# Altium footprint library footprints.PcbLib: 13 footprints
Each footprint in its own frame and in the unit in brackets; x right, y up, seen from the top. Pads: shape width x height; smd on the part's side, far side on the other; paste and mask are expansions set on the pad; w line width, h text height; cw(c..) or ccw(c..) is an arc to the next point about the centre after c.
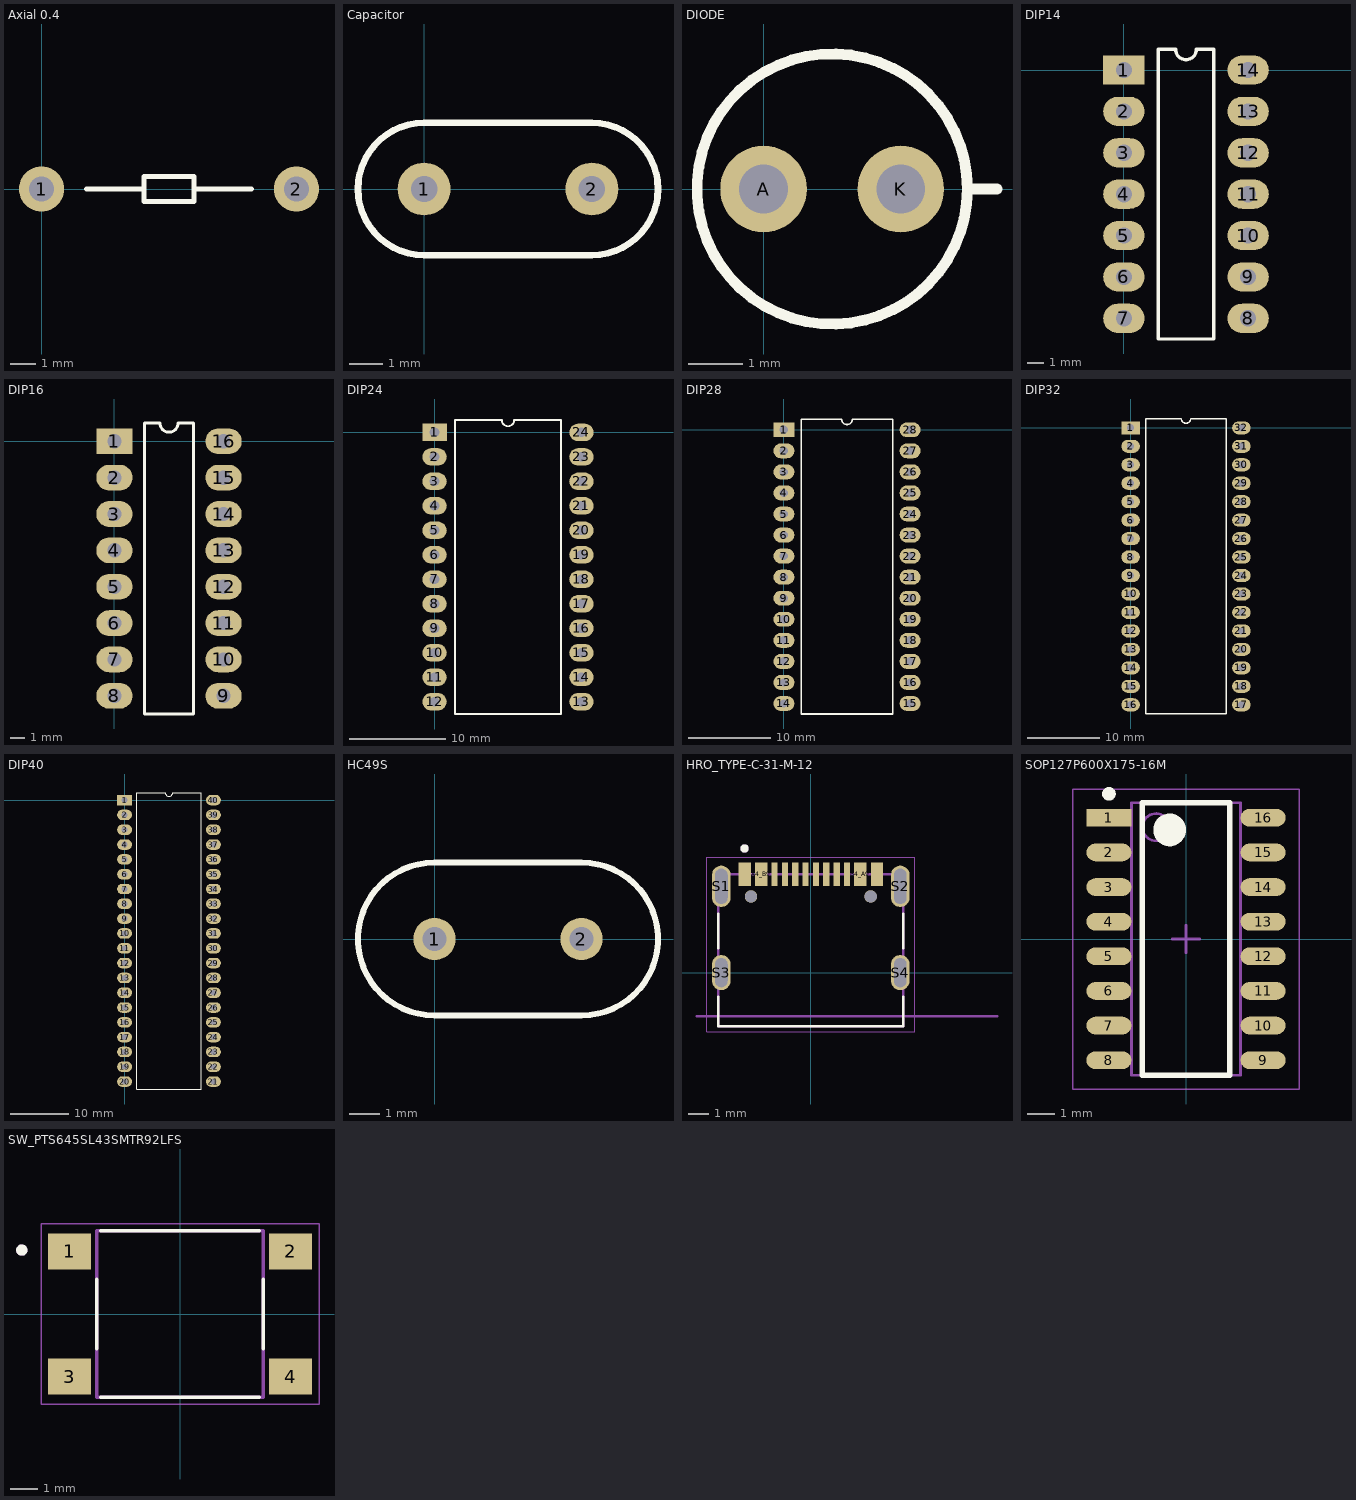
[diagram p0: the footprints below, top view; thin cyan lines are the x and y axes]

## Axial 0.4 [mm]
pads (2):
  round 1.8 hole 1: 1(0,0) 2(10.16,0)
Top Overlay:
  lines w0.2: 1.8,0 4.075,0 ; 6.085,0 8.36,0 ; 4.075,0 4.075,0.5 6.085,0.5 6.085,-0.5 4.075,-0.5 4.075,0

## Capacitor [mm]
pads (2):
  round 1.6 hole 0.8: 1(0,0) 2(5.08,0)
Top Overlay:
  lines w0.2: 0,-2 cw(c0,0) 0,2 5.08,2 cw(c5.08,0) 5.08,-2 0,-2

## DIODE [mm]
pads (2):
  round 1.6 hole 0.9: A(0,0) K(2.54,0)
Top Overlay:
  circle w0.2: c1.27,0 r2.5
  lines w0.2: 3.77,0 4.318,0

## DIP14 [mm]
pads (14):
  rect 2.54x1.8 hole 1: 1(0,0)
  oval 2.54x1.8 hole 1: 2(0,-2.54) 3(0,-5.08) 4(0,-7.62) 5(0,-10.16) 6(0,-12.7) 7(0,-15.24) 8(7.62,-15.24) 9(7.62,-12.7) 10(7.62,-10.16) 11(7.62,-7.62) 12(7.62,-5.08) 13(7.62,-2.54) 14(7.62,0)
Top Overlay:
  lines w0.2: 2.105,-16.51 5.515,-16.51 5.515,1.27 4.445,1.27 cw(c3.81,1.27) 3.175,1.27 2.105,1.27 2.105,-16.51

## DIP16 [mm]
pads (16):
  rect 2.54x1.8 hole 1: 1(0,0)
  oval 2.54x1.8 hole 1: 2(0,-2.54) 3(0,-5.08) 4(0,-7.62) 5(0,-10.16) 6(0,-12.7) 7(0,-15.24) 8(0,-17.78) 9(7.62,-17.78) 10(7.62,-15.24) 11(7.62,-12.7) 12(7.62,-10.16) 13(7.62,-7.62) 14(7.62,-5.08) 15(7.62,-2.54) 16(7.62,0)
Top Overlay:
  lines w0.2: 2.105,-19.05 2.105,1.27 3.175,1.27 ccw(c3.81,1.27) 4.445,1.27 5.515,1.27 5.515,-19.05 2.105,-19.05

## DIP24 [mm]
pads (24):
  rect 2.54x1.8 hole 1: 1(0,0)
  oval 2.54x1.8 hole 1: 2(0,-2.54) 3(0,-5.08) 4(0,-7.62) 5(0,-10.16) 6(0,-12.7) 7(0,-15.24) 8(0,-17.78) 9(0,-20.32) 10(0,-22.86) 11(0,-25.4) 12(0,-27.94) 13(15.24,-27.94) 14(15.24,-25.4) 15(15.24,-22.86) 16(15.24,-20.32) 17(15.24,-17.78) 18(15.24,-15.24) 19(15.24,-12.7) 20(15.24,-10.16) 21(15.24,-7.62) 22(15.24,-5.08) 23(15.24,-2.54) 24(15.24,0)
Top Overlay:
  lines w0.2: 2.105,-29.21 2.105,1.27 6.985,1.27 ccw(c7.62,1.27) 8.255,1.27 13.135,1.27 13.135,-29.21 2.105,-29.21

## DIP28 [mm]
pads (28):
  rect 2.54x1.8 hole 1: 1(0,0)
  oval 2.54x1.8 hole 1: 2(0,-2.54) 3(0,-5.08) 4(0,-7.62) 5(0,-10.16) 6(0,-12.7) 7(0,-15.24) 8(0,-17.78) 9(0,-20.32) 10(0,-22.86) 11(0,-25.4) 12(0,-27.94) 13(0,-30.48) 14(0,-33.02) 15(15.24,-33.02) 16(15.24,-30.48) 17(15.24,-27.94) 18(15.24,-25.4) 19(15.24,-22.86) 20(15.24,-20.32) 21(15.24,-17.78) 22(15.24,-15.24) 23(15.24,-12.7) 24(15.24,-10.16) 25(15.24,-7.62) 26(15.24,-5.08) 27(15.24,-2.54) 28(15.24,0)
Top Overlay:
  lines w0.2: 2.105,-34.29 2.105,1.27 6.985,1.27 ccw(c7.62,1.27) 8.255,1.27 13.135,1.27 13.135,-34.29 2.105,-34.29

## DIP32 [mm]
pads (32):
  rect 2.54x1.8 hole 1: 1(0,0)
  oval 2.54x1.8 hole 1: 2(0,-2.54) 3(0,-5.08) 4(0,-7.62) 5(0,-10.16) 6(0,-12.7) 7(0,-15.24) 8(0,-17.78) 9(0,-20.32) 10(0,-22.86) 11(0,-25.4) 12(0,-27.94) 13(0,-30.48) 14(0,-33.02) 15(0,-35.56) 16(0,-38.1) 17(15.24,-38.1) 18(15.24,-35.56) 19(15.24,-33.02) 20(15.24,-30.48) 21(15.24,-27.94) 22(15.24,-25.4) 23(15.24,-22.86) 24(15.24,-20.32) 25(15.24,-17.78) 26(15.24,-15.24) 27(15.24,-12.7) 28(15.24,-10.16) 29(15.24,-7.62) 30(15.24,-5.08) 31(15.24,-2.54) 32(15.24,0)
Top Overlay:
  lines w0.2: 2.105,-39.37 13.135,-39.37 13.135,1.27 8.255,1.27 cw(c7.62,1.27) 6.985,1.27 2.105,1.27 2.105,-39.37

## DIP40 [mm]
pads (40):
  rect 2.54x1.8 hole 1: 1(0,0)
  oval 2.54x1.8 hole 1: 2(0,-2.54) 3(0,-5.08) 4(0,-7.62) 5(0,-10.16) 6(0,-12.7) 7(0,-15.24) 8(0,-17.78) 9(0,-20.32) 10(0,-22.86) 11(0,-25.4) 12(0,-27.94) 13(0,-30.48) 14(0,-33.02) 15(0,-35.56) 16(0,-38.1) 17(0,-40.64) 18(0,-43.18) 19(0,-45.72) 20(0,-48.26) 21(15.24,-48.26) 22(15.24,-45.72) 23(15.24,-43.18) 24(15.24,-40.64) 25(15.24,-38.1) 26(15.24,-35.56) 27(15.24,-33.02) 28(15.24,-30.48) 29(15.24,-27.94) 30(15.24,-25.4) 31(15.24,-22.86) 32(15.24,-20.32) 33(15.24,-17.78) 34(15.24,-15.24) 35(15.24,-12.7) 36(15.24,-10.16) 37(15.24,-7.62) 38(15.24,-5.08) 39(15.24,-2.54) 40(15.24,0)
Top Overlay:
  lines w0.2: 2.105,-49.53 13.135,-49.53 13.135,1.27 8.255,1.27 cw(c7.62,1.27) 6.985,1.27 2.105,1.27 2.105,-49.53

## HC49S [mm]
pads (2):
  round 1.4 hole 0.8: 1(0,0) 2(4.88,0)
Top Overlay:
  lines w0.2: 0,-2.54 cw(c0,0) 0,2.54 4.88,2.54 cw(c4.88,0) 4.88,-2.54 0,-2.54

## HRO_TYPE-C-31-M-12 [mm]
height 3.26
pads (18):
  rect 0.6x1.14 smd mask+0.05: A1_B12(-3.2,4.75) A4_B9(-2.4,4.75) B1_A12(3.2,4.75) B4_A9(2.4,4.75)
  rect 0.3x1.14 smd mask+0.05: A5(-1.25,4.75) A6(-0.25,4.75) A7(0.25,4.75) A8(1.25,4.75) B5(1.75,4.75) B6(0.75,4.75) B7(-0.75,4.75) B8(-1.75,4.75)
  oval 0.9x2 hole 0.6 slot 1.7 at 90 deg: S1(-4.325,4.17) S2(4.325,4.17)
  oval 0.9x1.7 hole 0.6 slot 1.4 at 90 deg: S3(-4.325,0) S4(4.325,0)
  round 0.6 hole 0.6 unplated: ""(-2.89,3.68) ""(2.89,3.68)
Top Overlay:
  circle w0.2: c-3.2,6 r0.1
  lines w0.127: -4.47,-1.17 -4.47,-2.6 4.47,-2.6 4.47,-1.17 ; -4.47,1.17 -4.47,2.85 ; 4.47,1.17 4.47,2.85
Mechanical 13:
  circle w0.2: c-3.2,6 r0.1
  lines w0.127: -5.5,-2.11 9,-2.11 ; -4.47,-2.6 4.47,-2.6 4.47,4.75 -4.47,4.75 -4.47,-2.6
  text "PCB EDGE" at 5.2,-1.9 h0.61
Mechanical 15:
  lines w0.05: -5.025,-2.85 -5.025,5.57 5.025,5.57 5.025,-2.85 -5.025,-2.85
3D body "step_temp.STEP": height 3.31, standoff -0.99, extent -4.47,-2.6 4.47,5.305

## SOP127P600X175-16M [mm] "SOP, 16-Leads, Body 9.90x3.90mm, Pitch 1.27mm, IPC Low Density"
height 1.75
pads (16):
  rect 1.65x0.65 smd: 1(-2.825,4.445)
  oval 1.65x0.65 smd: 2(-2.825,3.175) 3(-2.825,1.905) 4(-2.825,0.635) 5(-2.825,-0.635) 6(-2.825,-1.905) 7(-2.825,-3.175) 8(-2.825,-4.445) 9(2.825,-4.445) 10(2.825,-3.175) 11(2.825,-1.905) 12(2.825,-0.635) 13(2.825,0.635) 14(2.825,1.905) 15(2.825,3.175) 16(2.825,4.445)
Top Overlay:
  circle w0.6: c-0.6,4 r0.3
  circle w0.25: c-2.825,5.32 r0.125
  lines w0.2: -1.6,-5 1.6,-5 1.6,5 -1.6,5 -1.6,-5
Mechanical 13:
  circle w0.1: c-1.1,4.1 r0.5
  lines w0.1: -2,-5 2,-5 2,5 -2,5 -2,-5
Mechanical 15:
  lines w0.05: -4.15,-5.5 4.15,-5.5 4.15,5.5 -4.15,5.5 -4.15,-5.5
  lines w0.1: -0.5,0 0.5,0 ; 0,-0.5 0,0.5
3D body "SOP127P600X175-16M.step": height 1.75, standoff 0, extent -3,-5 3,5

## SW_PTS645SL43SMTR92LFS [mm]
height 4.4
pads (4):
  rect 1.55x1.3 smd: 1(-3.975,2.25) 2(3.975,2.25) 3(-3.975,-2.25) 4(3.975,-2.25)
Top Overlay:
  circle w0.2: c-5.7,2.3 r0.1
  lines w0.127: -3,-1.25 -3,1.25 ; -2.85,-3 2.85,-3 ; -2.85,3 2.85,3 ; 3,-1.25 3,1.25
Mechanical 13:
  circle w0.2: c-5.7,2.3 r0.1
  lines w0.127: -3,-3 3,-3 3,3 -3,3 -3,-3
Mechanical 15:
  lines w0.05: -5,-3.25 5,-3.25 5,3.25 -5,3.25 -5,-3.25
3D body "step_temp.STEP": height 4.3, standoff 0, extent -4.5,-3 4.5,3